# Altium footprint library CK.PcbLib: 4 footprints
Each footprint in its own frame and in the unit in brackets; x right, y up, seen from the top. Pads: shape width x height; smd on the part's side, far side on the other; paste and mask are expansions set on the pad; w line width, h text height; cw(c..) or ccw(c..) is an arc to the next point about the centre after c.
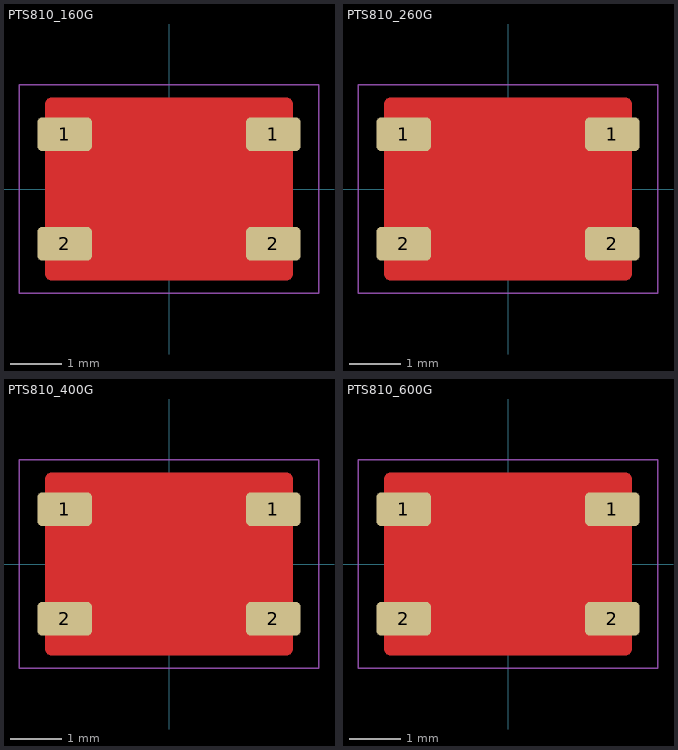
[diagram p0: the footprints below, top view; thin cyan lines are the x and y axes]

## PTS810_160G [mil]
pads (4):
  rrect30% 42x26 smd mask+2: 1(-80,42) 1(80,42) 2(-80,-42) 2(80,-42)
Top Layer:
  pour cut-out: -90,70 -90.99,70 -92.83,69.24 -94.24,67.83 -95,65.99 -95,65 -95,-65 -95,-65.99 -94.24,-67.83 -92.83,-69.24 -90.99,-70 -90,-70 90,-70 90.99,-70 92.83,-69.24 94.24,-67.83 95,-65.99 95,-65 95,65 95,65.99 94.24,67.83 92.83,69.24 90.99,70 90,70
Top Component Outline:
  lines w1: -115,-80 -115,80 115,80 115,-80 -115,-80
3D body "Y97LT25BADBFP_-PTS810 SJ 250 SMTR.stp": height 98.31, standoff -0.12, extent -90.05,-62.99 90.07,63

## PTS810_260G [mil]
pads (4):
  rrect30% 42x26 smd mask+2: 1(-80,42) 1(80,42) 2(-80,-42) 2(80,-42)
Top Layer:
  pour cut-out: -90,70 -90.99,70 -92.83,69.24 -94.24,67.83 -95,65.99 -95,65 -95,-65 -95,-65.99 -94.24,-67.83 -92.83,-69.24 -90.99,-70 -90,-70 90,-70 90.99,-70 92.83,-69.24 94.24,-67.83 95,-65.99 95,-65 95,65 95,65.99 94.24,67.83 92.83,69.24 90.99,70 90,70
Top Component Outline:
  lines w1: -115,-80 -115,80 115,80 115,-80 -115,-80
3D body "Y97LT25BADBFP_-PTS810 SJ 250 SMTR.stp": height 98.31, standoff -0.12, extent -90.05,-62.99 90.07,63

## PTS810_400G [mil]
pads (4):
  rrect30% 42x26 smd mask+2: 1(-80,42) 1(80,42) 2(-80,-42) 2(80,-42)
Top Layer:
  pour cut-out: -90,70 -90.99,70 -92.83,69.24 -94.24,67.83 -95,65.99 -95,65 -95,-65 -95,-65.99 -94.24,-67.83 -92.83,-69.24 -90.99,-70 -90,-70 90,-70 90.99,-70 92.83,-69.24 94.24,-67.83 95,-65.99 95,-65 95,65 95,65.99 94.24,67.83 92.83,69.24 90.99,70 90,70
Top Component Outline:
  lines w1: -115,-80 -115,80 115,80 115,-80 -115,-80
3D body "Y97LT25BADBFP_-PTS810 SJ 250 SMTR.stp": height 98.31, standoff -0.12, extent -90.05,-62.99 90.07,63

## PTS810_600G [mil]
pads (4):
  rrect30% 42x26 smd mask+2: 1(-80,42) 1(80,42) 2(-80,-42) 2(80,-42)
Top Layer:
  pour cut-out: -90,70 -90.99,70 -92.83,69.24 -94.24,67.83 -95,65.99 -95,65 -95,-65 -95,-65.99 -94.24,-67.83 -92.83,-69.24 -90.99,-70 -90,-70 90,-70 90.99,-70 92.83,-69.24 94.24,-67.83 95,-65.99 95,-65 95,65 95,65.99 94.24,67.83 92.83,69.24 90.99,70 90,70
Top Component Outline:
  lines w1: -115,-80 115,-80 115,80 -115,80 -115,-80
3D body "Y97LT25BADBFP_-PTS810 SJ 250 SMTR.stp": height 98.31, standoff -0.12, extent -90.05,-62.99 90.07,63